# EAGLE library part V23076A1001C133 (library V23076A1001C133)
Automotive Relays Source: Datasheet <https://componentsearchengine.com/Datasheets/2/V23076A1001C133.pdf>
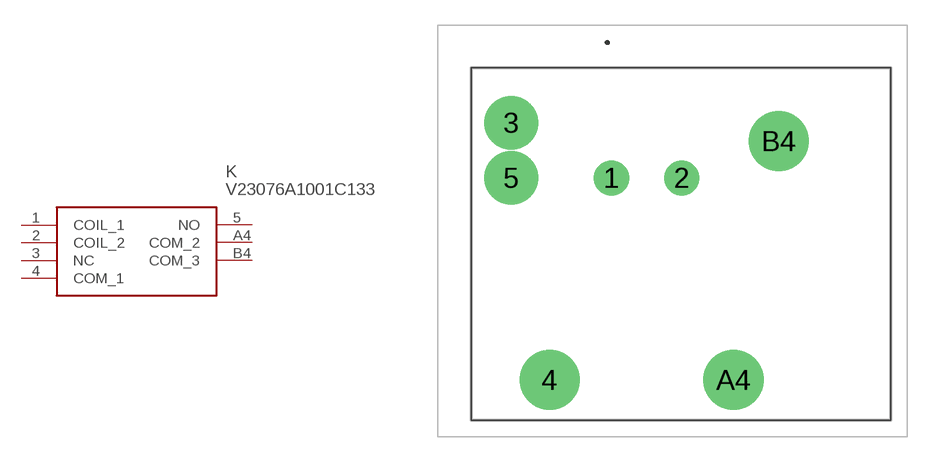
[diagram p0: symbol with the pads of V23076A1001C133; footprint V23076A1001C133]

Designator prefix K

## V23076A1001C133 (Arrow_Part_Number: V23076A1001C133; Arrow_Price-Stock: https://www.arrow.com/en/products/v23076a1001c133/te-connectivity; Description: Automotive Relays; Height: 21.5mm; Manufacturer_Name: TE Connectivity; Manufacturer_Part_Number: V23076A1001C133; Mouser_Part_Number: 571-V23076A1001C133; Mouser_Price-Stock: https://www.mouser.co.uk/ProductDetail/TE-Connectivity-AMP/V23076A1001C133?qs=CUfic%2FGsH5A8P1ALtscaeA%3D%3D)  [V23076A1001C133]
1  COIL_1
2  COIL_2
3  NC  nc
4  COM_1
5  NO
A4  COM_2
B4  COM_3

## Footprint V23076A1001C133 (pad centres in mm)
V23076A1001C133-1
drill 1.4 pad 2.1: 1 8.4,0; 2 12.6,0
drill 2.2 pad 3.15: 3 2.4,3.3; 5 2.4,0
drill 2.4 pad 3.6: 4 4.7,-12.1; A4 15.7,-12.1; B4 18.4,2.2